# Altium integrated library ABM7-24.000MHZ-D2Y-T.IntLib: 1 symbol
Pins are listed as number, name and electrical type; pins without a type are passive.

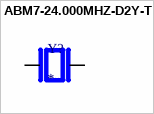
[diagram p0: symbol ABM7-24.000MHZ-D2Y-T]

## ABM7-24.000MHZ-D2Y-T
designator Y?
24 MHz Â±20ppm Crystal 18pF 50 Ohms 2-SMD, No Lead; MF: Abracon LLC; MP: ABM7-24.000MHZ-D2Y-T; Digi-Key_Part_Number: 535-9845-2-ND; Package: SMD-2 Abracon LLC; Value: *; SnapEDA_Link: https://www.snapeda.com/parts/ABM7-24.000MHZ-D2Y-T/Abracon+LLC/view-part/?ref=snap; Check_prices: https://www.snapeda.com/parts/ABM7-24.000MHZ-D2Y-T/Abracon+LLC/view-part/?ref=eda; Purchase-URL: https://pricing.snapeda.com/search/part/ABM7-24.000MHZ-D2Y-T/?ref=eda
footprint XTAL_ABM7-24.000MHZ-D2Y-T
pins: 1, 2